# Altium footprint library CNCPowerSupply.PcbLib: 60 footprints (part 2 of 4)
Each footprint in its own frame and in the unit in brackets; x right, y up, seen from the top. Pads: shape width x height; smd on the part's side, far side on the other; paste and mask are expansions set on the pad; w line width, h text height; cw(c..) or ccw(c..) is an arc to the next point about the centre after c.
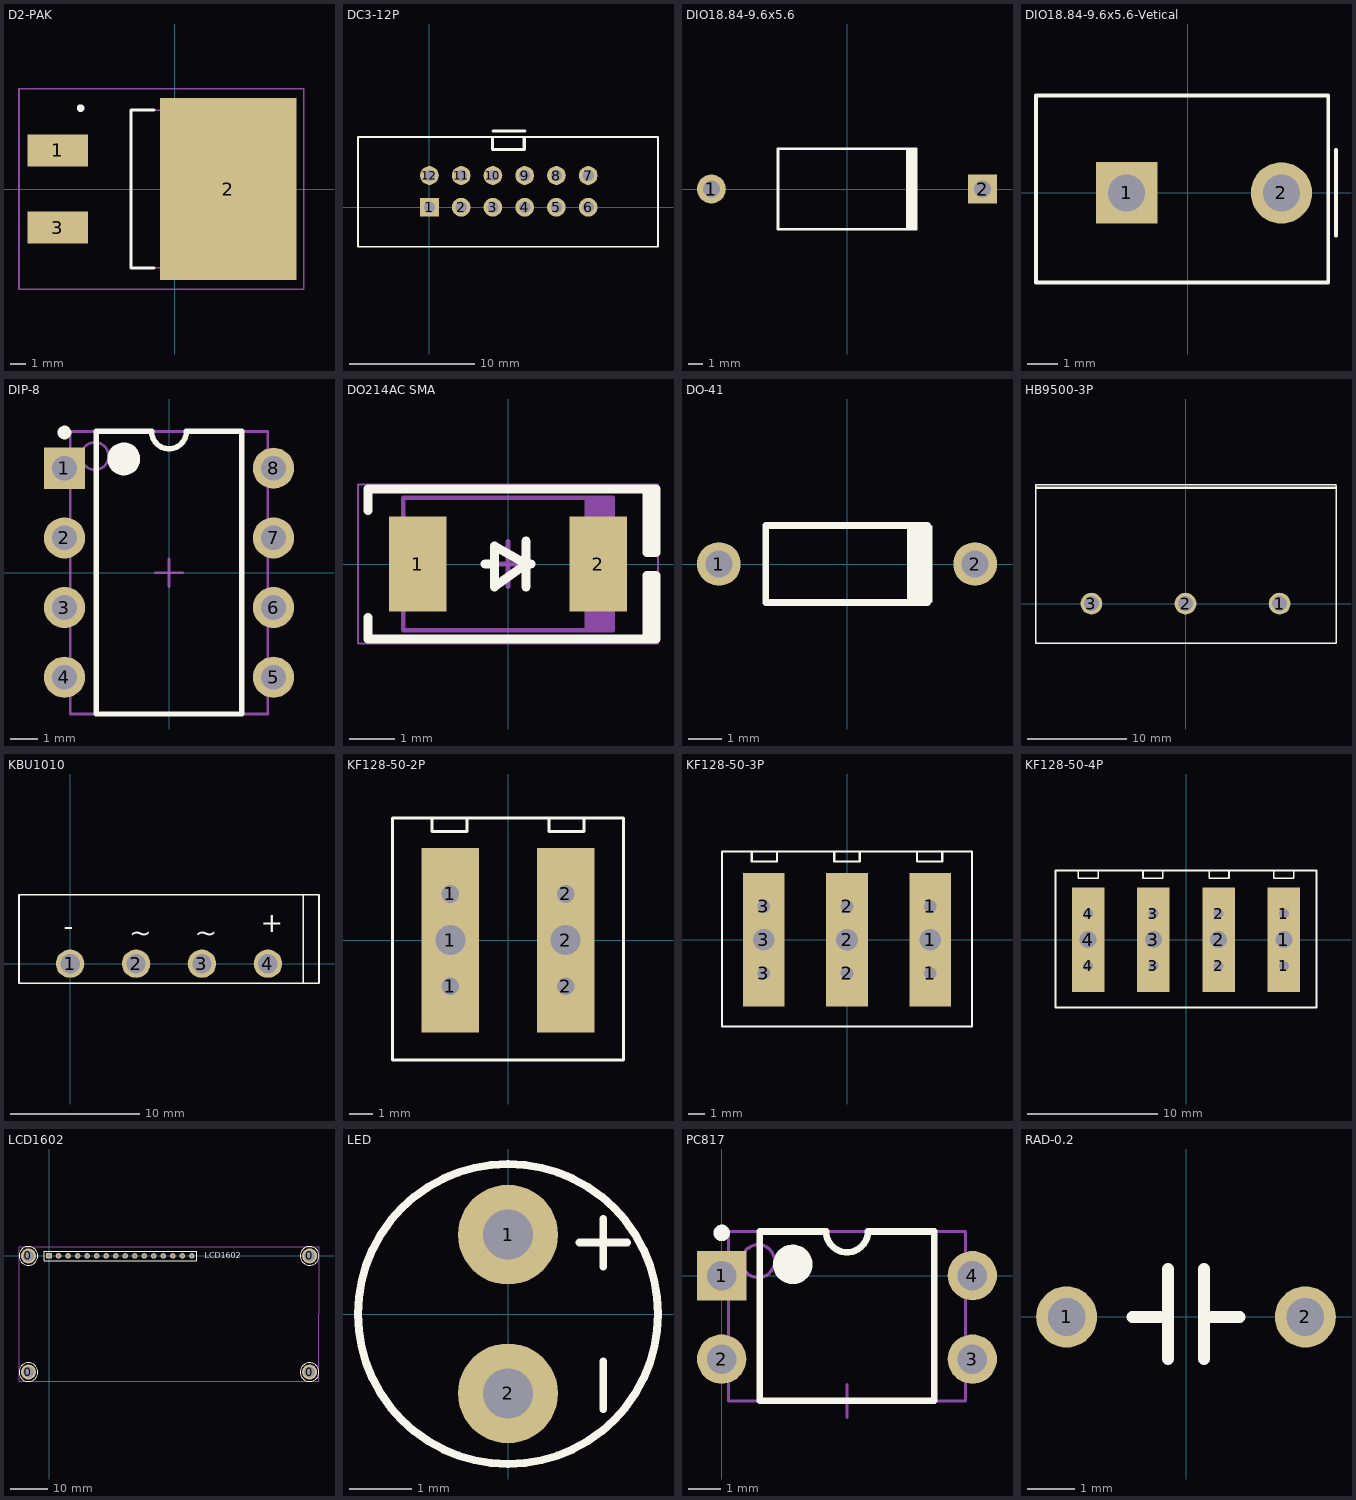
[diagram p1: the footprints below, top view; thin cyan lines are the x and y axes]

## D2-PAK [mm] "D2-PAK, 4-Leads, Body 9.2x10.2mm, Pitch 2.54mm, Lead Span 15.4mm, IPC High Density"
height 4.6
pads (3):
  rect 4x2.1 smd: 1(-7.74,2.54) 3(-7.74,-2.54)
  rect 9x12 smd: 2(3.5,0)
Top Overlay:
  circle w0.25: c-6.223,5.334 r0.125
  lines w0.2: -1.4,-5.2 -2.9,-5.2 -2.9,5.2 -1.4,5.2
Mechanical 13:
  lines w0.1: -2.9,-5.2 -2.9,5.2 6.5,5.2 6.5,-5.2 -2.9,-5.2
Mechanical 15:
  lines w0.1: -0.5,0 0.5,0 ; 0,-0.5 0,0.5 ; -10.287,-6.604 -10.287,6.604 8.509,6.604 8.509,-6.604 -10.287,-6.604
3D body: height 4.6, standoff 0, extent -2.9,-5.2 6.5,5.2

## DC3-12P [mm] "Connector; Header; 6x2 Position"
pads (12):
  rect 1.5x1.5 hole 0.9: 1(0,0)
  round 1.5 hole 0.9: 2(2.54,0) 3(5.08,0) 4(7.62,0) 5(10.16,0) 6(12.7,0) 7(12.7,2.54) 8(10.16,2.54) 9(7.62,2.54) 10(5.08,2.54) 11(2.54,2.54) 12(0,2.54)
Top Overlay:
  lines w0.127: -5.715,5.62 -5.715,-3.175 18.288,-3.175 18.288,5.62 ; -5.713,5.62 18.286,5.62
  lines w0.254: 5.041,5.5 5.041,4.611 7.581,4.611 7.581,5.5 ; 5.08,6.096 7.62,6.096

## DIO18.84-9.6x5.6 [mm] "Diode, Axial; Body 9.5 x 5.6 mm (LxDia. max), Lead Dia. 1.32 mm (max)"
height 5.6
pads (2):
  round 2 hole 1.2: 1(-9.42,0)
  rect 2x2 hole 1.2: 2(9.42,0)
Top Overlay:
  rectangle: 4.1,-2.8 4.9,2.8
  lines w0.2: 4.8,-2.8 -4.8,-2.8 -4.8,2.8 4.8,2.8
3D body: height 7.5, standoff 2.5, extent -4.809,-2.5 4.191,2.5

## DIO18.84-9.6x5.6-Vetical [mm] "Diode, Axial; Body 9.5 x 5.6 mm (LxDia. max), Lead Dia. 1.32 mm (max)"
height 37.5
pads (2):
  rect 2x2 hole 1.2: 1(-2,0)
  round 2 hole 1.2: 2(3.048,0)
Top Overlay:
  lines w0.127: 4.826,-1.397 4.826,1.397 ; -4.953,-2.921 4.572,-2.921 4.572,3.175 -4.953,3.175 -4.953,-2.921
3D body: height 10, standoff 0, extent -4.905,-2.952 1.095,3.048

## DIP-8 [mm] "DIP; 8 Leads; Row Spacing 7.62 mm; Pitch 2.54 mm"
height 5.08
pads (8):
  rect 1.5x1.5 hole 0.9: 1(-3.81,3.81)
  round 1.5 hole 0.9: 2(-3.81,1.27) 3(-3.81,-1.27) 4(-3.81,-3.81) 5(3.81,-3.81) 6(3.81,-1.27) 7(3.81,1.27) 8(3.81,3.81)
Top Overlay:
  circle w0.25: c-3.81,5.11 r0.125
  circle w0.6: c-1.65,4.15 r0.3
  lines w0.2: -2.65,-5.15 -2.65,5.15 -0.635,5.15 ccw(c0,5.15) 0.635,5.15 2.65,5.15 2.65,-5.15 -2.65,-5.15
Mechanical 13:
  circle w0.1: c-2.7,4.25 r0.5
  lines w0.1: -3.6,-5.15 -3.6,5.15 3.6,5.15 3.6,-5.15 -3.6,-5.15
Mechanical 15:
  lines w0.1: -0.5,0 0.5,0 ; 0,-0.5 0,0.5
3D body: height 5.08, standoff 0, extent -3.6,-5.15 3.6,5.15

## DO214AC SMA [mm] "Molded Diode, 2-Leads, Body 4.30x2.60mm, IPC Medium Density"
height 2.4
pads (2):
  rect 1.27x2.1 smd: 1(-1.985,0) 2(1.985,0)
Top Overlay:
  lines w0.2: -3.083,-1.175 -3.083,-1.651 3.25,-1.651 3.25,-0.254 3.056,-0.254 3.056,-1.651 ; -3.083,1.175 -3.083,1.651 3.25,1.651 3.25,0.254 3.056,0.254 3.056,1.651 ; -0.5,0 -0.3,0 ; 0.4,-0.5 0.4,0.5 ; 0.5,0 0.4,0 ; 0.4,0 -0.3,0.4 -0.3,-0.5 0.4,0
Mechanical 13:
  rectangle: 1.681,-1.46 2.3,1.46
  lines w0.1: -2.3,-1.46 -2.3,1.46 2.3,1.46 2.3,-1.46 -2.3,-1.46
Mechanical 15:
  lines w0.05: -3.3,-1.75 -3.3,1.75 3.3,1.75 3.3,-1.75 -3.3,-1.75
  lines w0.1: -0.5,0 0.5,0 ; 0,-0.5 0,0.5
3D body "SMA.STEP": height 2.4, standoff 0, extent -2.6,-1.375 2.6,1.375

## DO-41 [mm] "Diode, Axial; Body 5.2 x 2.7 mm (LxDia. max), Lead Dia. 0.86 mm (max)"
height 2.8
pads (2):
  round 1.3 hole 0.8: 1(-3.81,0) 2(3.81,0)
Top Overlay:
  rectangle: 1.778,-1.143 2.54,1.143
  lines w0.2: 2.393,-1.143 -2.413,-1.143 -2.413,1.143 2.393,1.143
3D body: height 2.55, standoff 0.05, extent -2.46,-1.23 2.54,1.27

## HB9500-3P [mm] "HB9500-3P"
pads (3):
  round 2.2 hole 1.5: 1(9.5,0) 2(0,0) 3(-9.5,0)
Top Overlay:
  lines w0.127: 15.2,11.898 15.2,-4 -15.1,-4 -15.1,12 15.2,12
  lines w0.254: -14.986,11.684 15.113,11.684
3D body: height 15, standoff 0, extent -15.113,-3.937 15.113,11.684

## KBU1010 [mm]
pads (4):
  round 2.2 hole 1.5: 1(0,0) 2(5.1,0) 3(10.2,0) 4(15.3,0)
Top Overlay:
  lines w0.127: 18.034,-1.524 18.034,5.334 ; -3.95,-1.524 19.25,-1.524 19.25,5.334 -3.95,5.334 -3.95,-1.524
  text "+" at 14.732,2.413 h1.52
  text "~" at 9.652,1.651 h1.52
  text "~" at 4.572,1.651 h1.52
  text "-" at -0.508,2.159 h1.52
3D body: height 19.3, standoff 0, extent -3.937,-1.524 19.177,5.334

## KF128-50-2P [mm] "KF128-50-2P"
pads (6):
  round 1.524 hole 0.762 mask+0: 1(-2.5,-2) 1(-2.5,2) 2(2.5,-2) 2(2.5,2)
  rect 2.5x8 hole 1.3: 1(-2.5,0) 2(2.5,0)
Top Overlay:
  lines w0.127: -3.302,5.207 -3.302,4.699 -1.778,4.699 -1.778,5.207 ; 1.778,5.207 1.778,4.699 3.302,4.699 3.302,5.207 ; -5,-5.2 5,-5.2 5,5.3 -5,5.3 -5,-5.2
3D body: height 14, standoff 0, extent -4.953,-5.207 4.953,5.334

## KF128-50-3P [mm] "KF128-50-3P"
pads (9):
  round 1.524 hole 0.762 mask+0: 1(5,-2) 1(5,2) 2(0,-2) 2(0,2) 3(-5,-2) 3(-5,2)
  rect 2.5x8 hole 1.3: 1(5,0) 2(0,0) 3(-5,0)
Top Overlay:
  lines w0.127: -7.5,-5.2 -7.5,5.3 ; -7.493,-5.2 7.5,-5.2 7.5,5.3 -7.493,5.3 ; -5.715,5.207 -5.715,4.699 -4.191,4.699 -4.191,5.207 ; -0.762,5.207 -0.762,4.699 0.762,4.699 0.762,5.207 ; 4.191,5.207 4.191,4.699 5.715,4.699 5.715,5.207
3D body: height 7, standoff 0, extent -7.493,-5.207 7.493,5.334

## KF128-50-4P [mm] "KF128-50-4P"
pads (12):
  round 1.524 hole 0.762 mask+0: 1(7.5,-2) 1(7.5,2) 2(2.5,-2) 2(2.5,2) 3(-2.5,-2) 3(-2.5,2) 4(-7.5,-2) 4(-7.5,2)
  rect 2.5x8 hole 1.3: 1(7.5,0) 2(2.5,0) 3(-2.5,0) 4(-7.5,0)
Top Overlay:
  lines w0.127: -8.255,5.207 -8.255,4.699 -6.731,4.699 -6.731,5.207 ; -3.302,5.207 -3.302,4.699 -1.778,4.699 -1.778,5.207 ; 1.778,5.207 1.778,4.699 3.302,4.699 3.302,5.207 ; 6.731,5.207 6.731,4.699 8.255,4.699 8.255,5.207 ; -10,-5.2 10,-5.2 10,5.3 -10,5.3 -10,-5.2
3D body: height 7, standoff 0, extent -10.033,-5.207 10.033,5.334

## LCD1602 [mm] "LCD1602"
pads (20):
  round 4 hole 3: 0(-5.5,-31) 0(-5.5,0) 0(69.5,-31) 0(69.5,0)
  rect 1.5x1.5 hole 0.9: 1(0,0)
  round 1.5 hole 0.9: 2(2.54,0) 3(5.08,0) 4(7.62,0) 5(10.16,0) 6(12.7,0) 7(15.24,0) 8(17.78,0) 9(20.32,0) 10(22.86,0) 11(25.4,0) 12(27.94,0) 13(30.48,0) 14(33.02,0) 15(35.56,0) 16(38.1,0)
Top Overlay:
  circle w0.254: c-5.5,-31 r2.5
  circle w0.254: c-5.5,0 r2.5
  circle w0.254: c69.5,0 r2.5
  circle w0.254: c69.5,-31 r2.5
  lines w0.2: -1.27,-1.27 39.37,-1.27 39.37,1.27 0.635,1.27 -1.27,1.27 -1.27,-1.27
  text "LCD1602" at 41.529,-0.635 h1.52
Mechanical 13:
  lines w0.254: -8,-33.5 72,-33.5 72,2.5 -8,2.5 -8,-33.5

## LED [mm] "LED; 2 Leads"
pads (2):
  round 1.6 hole 0.8: 1(0,1.27) 2(0,-1.27)
Top Overlay:
  circle w0.127: c0,0 r2.4
  lines w0.127: 1.143,1.143 1.905,1.143 ; 1.524,-1.524 1.524,-0.762 ; 1.524,0.762 1.524,1.524

## PC817 [mm] "PC817"
pads (4):
  rect 1.5x1.5 hole 0.9: 1(0,0)
  round 1.5 hole 0.9: 2(0,-2.54) 3(7.62,-2.54) 4(7.62,0)
Top Overlay:
  circle w0.25: c0,1.3 r0.125
  circle w0.6: c2.16,0.34 r0.3
  lines w0.2: 1.16,-3.81 1.16,1.34 3.175,1.34 ccw(c3.81,1.34) 4.445,1.34 6.46,1.34 6.46,-3.81 1.16,-3.81
Mechanical 13:
  circle w0.1: c1.11,0.44 r0.5
  lines w0.1: 0.21,-3.81 0.21,1.34 7.41,1.34 7.41,-3.81 0.21,-3.81
Mechanical 15:
  lines w0.1: 3.31,-3.81 4.31,-3.81 ; 3.81,-4.31 3.81,-3.31
3D body: height 5.08, standoff 0, extent 0.21,-3.81 7.41,1.34

## RAD-0.2 [mm] "Radial Cap, Thru-Hole; 2 Leads; 0.2 in Pin Spacing"
pads (2):
  round 1.3 hole 0.8: 1(-2.54,0) 2(2.54,0)
Top Overlay:
  lines w0.254: -1.143,0 -0.381,0 ; -0.381,-0.889 -0.381,1.016 ; 0.381,-0.889 0.381,1.016 ; 0.381,0 1.143,0
3D body: height 6, standoff 0, extent -2.54,-1.905 2.54,2.032